# EAGLE library part 78 (library display-lcd-lxd)
4 AlphaNumerical Digit, .70" (17.78) Direct Drive Display Additional Descriptors: none
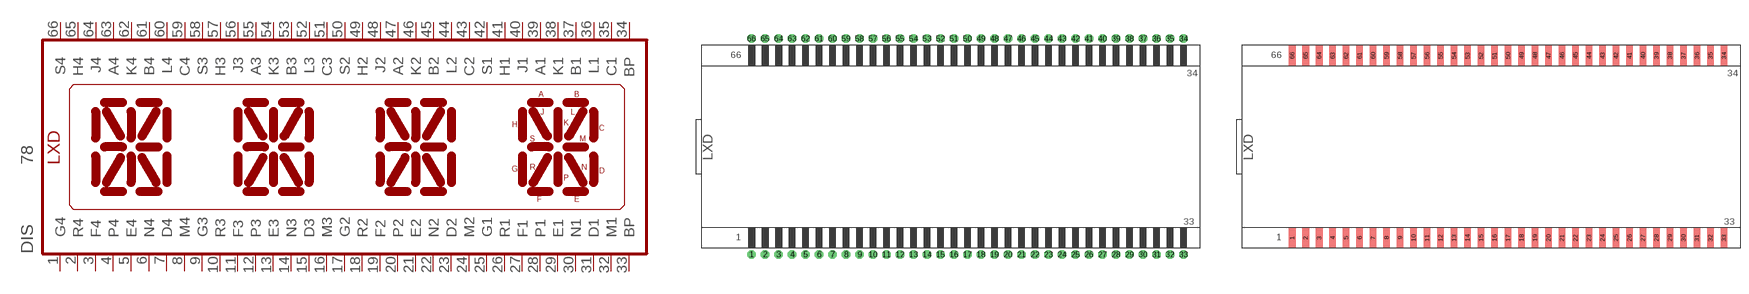
[diagram p29: symbol with the pads of 78-D; footprints 78-D, 78-E]

Designator prefix DIS

## 78DIP  [78-D]
1  G4  pas
2  R4  pas
3  F4  pas
4  P4  pas
5  E4  pas
6  N4  pas
7  D4  pas
8  M4  pas
9  G3  pas
10  R3  pas
11  F3  pas
12  P3  pas
13  E3  pas
14  N3  pas
15  D3  pas
16  M3  pas
17  G2  pas
18  R2  pas
19  F2  pas
20  P2  pas
21  E2  pas
22  N2  pas
23  D2  pas
24  M2  pas
25  G1  pas
26  R1  pas
27  F1  pas
28  P1  pas
29  E1  pas
30  N1  pas
31  D1  pas
32  M1  pas
33  BP  pas
34  BP  pas
35  C1  pas
36  L1  pas
37  B1  pas
38  K1  pas
39  A1  pas
40  J1  pas
41  H1  pas
42  S1  pas
43  C2  pas
44  L2  pas
45  B2  pas
46  K2  pas
47  A2  pas
48  J2  pas
49  H2  pas
50  S2  pas
51  C3  pas
52  L3  pas
53  B3  pas
54  K3  pas
55  A3  pas
56  J3  pas
57  H3  pas
58  S3  pas
59  C4  pas
60  L4  pas
61  B4  pas
62  K4  pas
63  A4  pas
64  J4  pas
65  H4  pas
66  S4  pas

## 78SMD  [78-E]
Pads as for 78-D

## Footprint 78-D (pad centres in mm)
Glass Size: 3.695" x 1.50" &nbsp &nbsp &nbsp &nbsp &nbsp &nbsp &nbsp &nbsp &nbsp (93.85 x 38.10)
drill 0.813 pad 1.6 round: 1 -37.465,-20.32
drill 0.813 pad 1.6 octagon: 2 -34.925,-20.32; 3 -32.385,-20.32; 4 -29.845,-20.32; 5 -27.305,-20.32; 6 -24.765,-20.32; 7 -22.225,-20.32; 8 -19.685,-20.32; 9 -17.145,-20.32; 10 -14.605,-20.32; 11 -12.065,-20.32; 12 -9.525,-20.32; 13 -6.985,-20.32; 14 -4.445,-20.32; 15 -1.905,-20.32; 16 0.635,-20.32; 17 3.175,-20.32; 18 5.715,-20.32; 19 8.255,-20.32; 20 10.795,-20.32; 21 13.335,-20.32; 22 15.875,-20.32; 23 18.415,-20.32; 24 20.955,-20.32; 25 23.495,-20.32; 26 26.035,-20.32; 27 28.575,-20.32; 28 31.115,-20.32; 29 33.655,-20.32; 30 36.195,-20.32; 31 38.735,-20.32; 32 41.275,-20.32; 33 43.815,-20.32; 34 43.815,20.32; 35 41.275,20.32; 36 38.735,20.32; 37 36.195,20.32; 38 33.655,20.32; 39 31.115,20.32; 40 28.575,20.32; 41 26.035,20.32; 42 23.495,20.32; 43 20.955,20.32; 44 18.415,20.32; 45 15.875,20.32; 46 13.335,20.32; 47 10.795,20.32; 48 8.255,20.32; 49 5.715,20.32; 50 3.175,20.32; 51 0.635,20.32; 52 -1.905,20.32; 53 -4.445,20.32; 54 -6.985,20.32; 55 -9.525,20.32; 56 -12.065,20.32; 57 -14.605,20.32; 58 -17.145,20.32; 59 -19.685,20.32; 60 -22.225,20.32; 61 -24.765,20.32; 62 -27.305,20.32; 63 -29.845,20.32; 64 -32.385,20.32; 65 -34.925,20.32; 66 -37.465,20.32

## Footprint 78-E (pad centres in mm)
Glass Size: 3.695" x 1.50" &nbsp &nbsp &nbsp &nbsp &nbsp &nbsp &nbsp &nbsp &nbsp (93.85 x 38.10)
smd 1.27 x 3.81: 1 -37.465,-17.145; 2 -34.925,-17.145; 3 -32.385,-17.145; 4 -29.845,-17.145; 5 -27.305,-17.145; 6 -24.765,-17.145; 7 -22.225,-17.145; 8 -19.685,-17.145; 9 -17.145,-17.145; 10 -14.605,-17.145; 11 -12.065,-17.145; 12 -9.525,-17.145; 13 -6.985,-17.145; 14 -4.445,-17.145; 15 -1.905,-17.145; 16 0.635,-17.145; 17 3.175,-17.145; 18 5.715,-17.145; 19 8.255,-17.145; 20 10.795,-17.145; 21 13.335,-17.145; 22 15.875,-17.145; 23 18.415,-17.145; 24 20.955,-17.145; 25 23.495,-17.145; 26 26.035,-17.145; 27 28.575,-17.145; 28 31.115,-17.145; 29 33.655,-17.145; 30 36.195,-17.145; 31 38.735,-17.145; 32 41.275,-17.145; 33 43.815,-17.145; 34 43.815,17.145; 35 41.275,17.145; 36 38.735,17.145; 37 36.195,17.145; 38 33.655,17.145; 39 31.115,17.145; 40 28.575,17.145; 41 26.035,17.145; 42 23.495,17.145; 43 20.955,17.145; 44 18.415,17.145; 45 15.875,17.145; 46 13.335,17.145; 47 10.795,17.145; 48 8.255,17.145; 49 5.715,17.145; 50 3.175,17.145; 51 0.635,17.145; 52 -1.905,17.145; 53 -4.445,17.145; 54 -6.985,17.145; 55 -9.525,17.145; 56 -12.065,17.145; 57 -14.605,17.145; 58 -17.145,17.145; 59 -19.685,17.145; 60 -22.225,17.145; 61 -24.765,17.145; 62 -27.305,17.145; 63 -29.845,17.145; 64 -32.385,17.145; 65 -34.925,17.145; 66 -37.465,17.145